# Altium schematic symbol library Diac-NPN.Schlib: 1 symbol
Pins are listed as number, name and electrical type; pins without a type are passive.

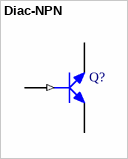
[diagram p0: symbol Diac-NPN]

## Diac-NPN
designator Q?
DIAC
pins: 1 B (in), 2 C, 3 E